# Altium integrated library Mechanical Library.IntLib: 2 symbols
Pins are listed as number, name and electrical type; pins without a type are passive.

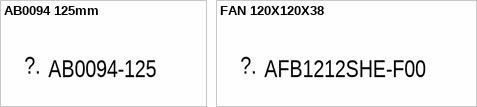
[diagram p0: symbols AB0094 125mm to FAN 120X120X38]

## AB0094 125mm
designator ?., comment PartNumber: AB0094-125  (hidden comment: AB0094 HeatSink lenght 125mm)  (mechanical)
Aluminum HeatSink AB0094 lenght 125mm; Manufacture: Ligra; ComponentLink1Description: Ligra AB0094; ComponentLink1URL: http://www.ligra-spb.ru/Profile.htm
footprint AB00094 125mm (HeatSink AB00094 (Ligra-spb.ru))

## FAN 120X120X38
designator ?., comment PartNumber: AFB1212SHE-F00  (hidden comment: FAN 120X120X38, 12VDC, 4.25m³/min)  (mechanical)
BLDC FAN FAN 120X120X38mm, 12VDC, Ball bearing, Speed Sensor; Manufacture: Delta Electronics; ComponentLink1Description: Ligra AB0094; ComponentLink1URL: http://www.ligra-spb.ru/Profile.htm
footprint FAN120X120X38 (FAN 120X120X38mm)